# Altium footprint library pcb_lib.PcbLib: 20 footprints (part 1 of 2)
Each footprint in its own frame and in the unit in brackets; x right, y up, seen from the top. Pads: shape width x height; smd on the part's side, far side on the other; paste and mask are expansions set on the pad; w line width, h text height; cw(c..) or ccw(c..) is an arc to the next point about the centre after c.
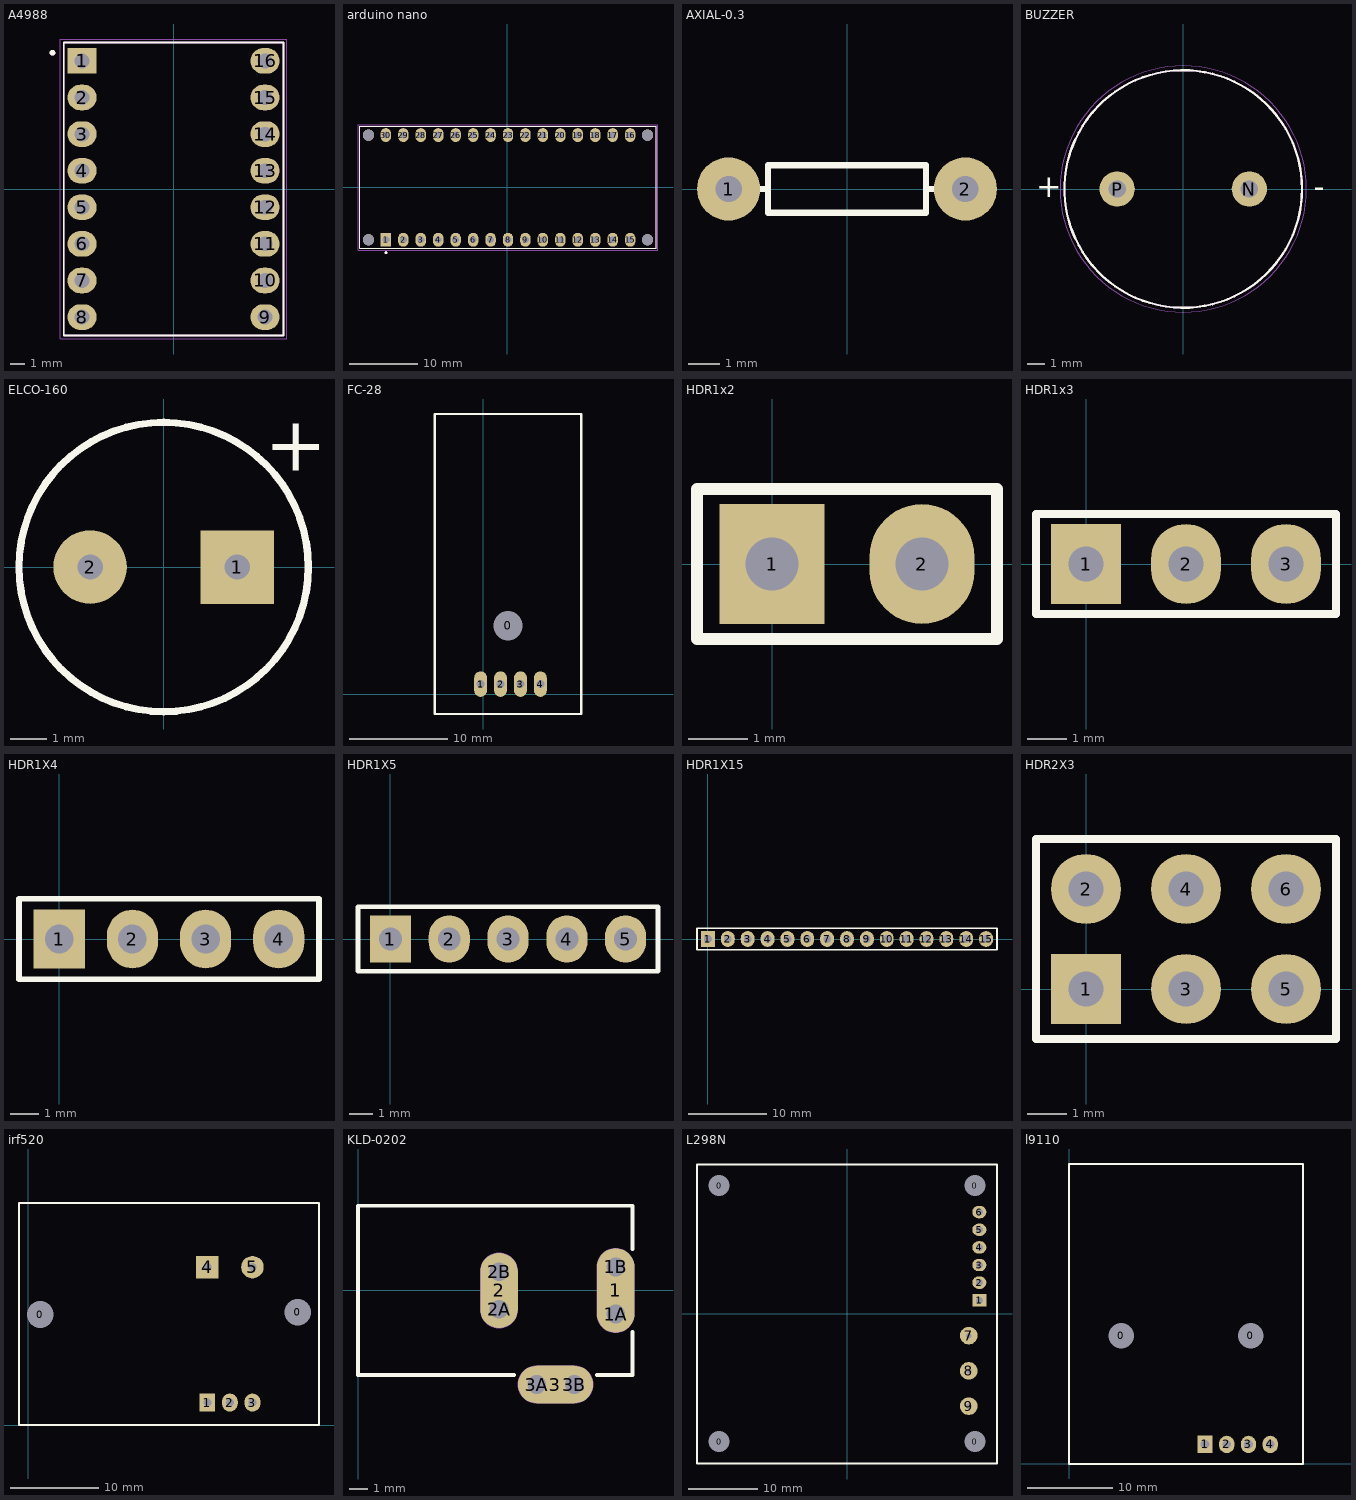
[diagram p0: the footprints below, top view; thin cyan lines are the x and y axes]

## A4988 [mil]
pads (16):
  rect 80x70 hole 40.16: 1(-250,350)
  oval 80x70 hole 40.16: 2(-250,250) 3(-250,150) 4(-250,50) 5(-250,-50) 6(-250,-150) 7(-250,-250) 8(-250,-350) 9(250,-350) 10(250,-250) 11(250,-150) 12(250,-50) 13(250,50) 14(250,150) 15(250,250) 16(250,350)
Top Overlay:
  circle w7.87: c-330.71,372.05 r3.94
  lines w5: -300,-400 300,-400 300,400 -300,400 -300,-400
Mechanical 13:
  circle w7.87: c-330.71,372.05 r3.94
  lines w5: -300,-400 300,-400 300,400 -300,400 -300,-400
Mechanical 15:
  lines w1.97: -309.84,-409.84 -309.84,409.84 309.84,409.84 309.84,-409.84 -309.84,-409.84
3D body "A4988-Stepper-Driver-WithPins.stp": height 224.41, standoff -216.54, extent -294.49,-400 294.49,400

## arduino nano [mil]
pads (34):
  rect 60x80 / inner oval 60x80 / far side rect 60x80 hole 40: 1(-695,-300)
  oval 60x80 hole 40: 2(-595,-300) 3(-495,-300) 4(-395,-300) 5(-295,-300) 6(-195,-300) 7(-95,-300) 8(5,-300) 9(105,-300) 10(205,-300) 11(305,-300) 12(405,-300) 13(505,-300) 14(605,-300) 15(705,-300) 16(705,300) 17(605,300) 18(505,300) 19(405,300) 20(305,300) 21(205,300) 22(105,300) 23(5,300) 24(-95,300) 25(-195,300) 26(-295,300) 27(-395,300) 28(-495,300) 29(-595,300) 30(-695,300)
  round 65 hole 65 unplated: ""(-795,-300) ""(-795,300) ""(805,-300) ""(805,300)
Top Overlay:
  circle w7.87: c-695,-374.02 r3.94
  lines w5: -845,-350 -845,350 855,350 855,-350 -845,-350
Mechanical 13:
  circle w7.87: c-695,-374.02 r3.94
  lines w5: -845,-350 -845,350 855,350 855,-350 -845,-350
Mechanical 15:
  lines w1.97: -854.84,-359.84 -854.84,359.84 864.84,359.84 864.84,-359.84 -854.84,-359.84
3D body "step_temp.STEP": height 236.22, standoff -236.22, extent -880.27,-355 865,345

## AXIAL-0.3 [mil] "Axial Device, Thru-Hole; 2 Leads; 0.3 in Pin Spacing"
height 60
pads (2):
  round 80 hole 33.46: 1(-150,0) 2(150,0)
Top Overlay:
  lines w7.87: -109,0 -100,0 ; 109,0 100,0 ; 100,0 100,30 -100,30 -100,-30 100,-30 100,0
3D body "Resistor P 8 mm.STEP": height 122, standoff -102.17, extent -165.36,-49.02 165.36,45

## BUZZER [mil]
pads (2):
  round 80 hole 39.37: N(150,0) P(-150,0)
Top Overlay:
  circle w5: c0,0 r269.69
  text "-" at 296.54,-18.57 h50.18
  text "+" at -334.31,-18.57 h50.19
Mechanical 13:
  circle w5: c0,0 r269.69
Mechanical 15:
  circle w1.97: c0,0 r279.53
3D body "RMP-14P-HT.stp": height 275.59, standoff -137.8, extent -275.58,-270.58 275.6,280.6

## ELCO-160 [mil] "Polarized Capacitor (Radial); 2 Leads"
height 185.04
pads (2):
  rect 80x80 hole 27.56: 1(80,0)
  round 80 hole 27.56: 2(-80,0)
Top Overlay:
  circle w7.87: c0,0 r157.48
  text "+" at 110,105 h59.06
3D body "100uF 35V electr 8 x12mm -P.diameter 4mm-Black-White.stp": height 477.44, standoff -156.42, extent -157.48,-157.46 157.49,157.47

## FC-28 [mil]
pads (5):
  round 60 hole 118.11: 0(100,275)
  oval 51.5x102.99 hole 31.5: 1(-10,40) 2(70,40) 3(150,40) 4(230,40)
Top Overlay:
  lines w10: -195,-80 395,-80 395,1125 -195,1125 -195,-80
3D body "soil sensor.STEP": height 196.85, standoff 0, extent -176.18,-250 375,1364.17

## HDR1x2 [mil]
pads (2):
  rect 70x80 hole 35.43: 1(0,0)
  oval 70x80 hole 35.43: 2(100,0)
Top Overlay:
  lines w7.87: -50,-50 150,-50 150,50 -50,50 -50,-50
3D body "2x1, Male, Header, 0.1in pitch.stp": height 340, standoff -100, extent -50,-50 150,50

## HDR1x3 [mil]
pads (3):
  rect 70x80 hole 35.43: 1(0,0)
  oval 70x80 hole 35.43: 2(100,0) 3(200,0)
Top Overlay:
  lines w7.87: -50,-50 -50,50 250,50 250,-50 -50,-50
3D body "2x1, Male, Header, 0.1in pitch.stp": height 340, standoff -100, extent -50,-50 150,50
3D body "2x1, Male, Header, 0.1in pitch.stp": height 340, standoff -100, extent 50,-50 250,50

## HDR1X4 [mil]
pads (4):
  rect 70x80 hole 38.98: 1(0,0)
  oval 70x80 hole 38.98: 2(100,0) 3(200,0) 4(300,0)
Top Overlay:
  lines w7.87: -55.12,-55.12 -55.12,55.12 355,55.12 355,-55.12 -55.12,-55.12
3D body "4x1, Male, Header, 0.1in pitch.stp": height 340, standoff -100, extent -50,-50 350,50

## HDR1X5 [mil]
pads (5):
  rect 70x80 hole 38.98: 1(0,0)
  oval 70x80 hole 38.98: 2(100,0) 3(200,0) 4(300,0) 5(400,0)
Top Overlay:
  lines w7.87: -55.12,-55.12 -55.12,55.12 455,55.12 455,-55.12 -55.12,-55.12
3D body "4x1, Male, Header, 0.1in pitch.stp": height 340, standoff -100, extent 45,-50 445,50
3D body "4x1, Male, Header, 0.1in pitch.stp": height 340, standoff -100, extent -50,-50 350,50

## HDR1X15 [mil]
pads (15):
  rect 70x80 hole 38.98: 1(0,0)
  oval 70x80 hole 38.98: 2(100,0) 3(200,0) 4(300,0) 5(400,0) 6(500,0) 7(600,0) 8(700,0) 9(800,0) 10(900,0) 11(1000,0) 12(1100,0) 13(1200,0) 14(1300,0) 15(1400,0)
Top Overlay:
  lines w7.87: -55.12,-55.12 1455,-55.12 1455,55.12 -55.12,55.12 -55.12,-55.12
3D body "10x1, Male, Header, 0.1in pitch.stp": height 340, standoff -100, extent -50,-50 950,50
3D body "10x1, Male, Header, 0.1in pitch.stp": height 340, standoff -100, extent 450,-50 1450,50

## HDR2X3 [mil] "Connector; Header; 4x2 Position"
pads (6):
  rect 70x70 hole 35.43: 1(0,0)
  round 70 hole 35.43: 2(0,100) 3(100,0) 4(100,100) 5(200,0) 6(200,100)
Top Overlay:
  lines w7.87: -50,-50 250,-50 250,150 -50,150 -50,-50
3D body "2x1, Male, Header, 0.1in pitch.stp": height 340, standoff -100, extent 50,-50 250,50
3D body "2x1, Male, Header, 0.1in pitch.stp": height 340, standoff -100, extent -50,-50 150,50
3D body "2x1, Male, Header, 0.1in pitch.stp": height 340, standoff -100, extent 50,50 250,150
3D body "2x1, Male, Header, 0.1in pitch.stp": height 340, standoff -100, extent -50,50 150,150

## irf520 [mil]
pads (7):
  round 60 hole 118.11: 0(55,490) 0(1195,500)
  rect 70x80 hole 35.43: 1(795,100)
  oval 70x80 hole 35.43: 2(895,100) 3(995,100)
  rect 100x100 hole 35.43: 4(795,700)
  round 100 hole 35.43: 5(995,700)
Top Overlay:
  lines w10: -40,0 -40,985 1290,985 1290,0 -40,0
3D body "irf520n_module_asm.stp": height 814.96, standoff -31.5, extent -45,-230.24 1293.58,990.24

## KLD-0202 [mm] "DC Power Jack, 2.5mm, KLD Series, PCB Mount"
height 4.7
pads (9):
  oval 2x4.5 all layers, no hole: 1(13.7,0)
  round 1.5 hole 1: 1A(13.7,-1.25) 1B(13.7,1.25) 2A(7.5,-1) 2B(7.5,1) 3A(9.5,-5) 3B(11.5,-5)
  oval 2x4 all layers, no hole: 2(7.5,0)
  oval 4x2 all layers, no hole: 3(10.5,-5)
Top Overlay:
  lines w0.2: 8.3,-4.5 0,-4.5 0,4.5 14.6,4.5 14.6,2.2 ; 12.7,-4.5 14.6,-4.5 14.6,-2.2
Mechanical 1:
  lines w1: 7.5,-1 7.5,1 ; 9.5,-5 11.5,-5 ; 13.7,-1.25 13.7,1.25
Mechanical 2:
  lines w2.016: 7.5,-1 7.5,1 ; 9.5,-5 11.5,-5 ; 13.7,-1.25 13.7,1.25
3D body "DC_Barrel_Assy.stp": height 11.09, standoff -4.41, extent 0,-4.946 14.663,4.754

## L298N [mil]
pads (13):
  round 60 hole 118.11: 0(-725,-725) 0(-725,725) 0(725,-725) 0(725,725)
  rect 80x70 hole 38.98: 1(750,75)
  oval 80x70 hole 38.98: 2(750,175) 3(750,275) 4(750,375) 5(750,475) 6(750,575)
  round 100 hole 30: 7(690,-125) 8(690,-325) 9(690,-525)
Top Overlay:
  lines w10: -850,-850 850,-850 850,845 -850,845 -850,0 -850,-850
3D body "placa_controlador_nueva v56.step": height 1052.02, standoff -95.69, extent -846.76,-846.46 846.45,846.45

## l9110 [mil]
pads (6):
  round 60 hole 118.11: 0(240,590) 0(835,590)
  rect 70x80 / inner oval 70x80 / far side rect 70x80 hole 39.37: 1(625,90)
  oval 70x80 hole 39.37: 2(725,90) 3(825,90) 4(925,90)
Top Overlay:
  lines w10: 0,0 0,1380 1075,1380 1075,0 0,0
3D body "STEP_MotorBoard.stp": height 1369.92, standoff -863.39, extent -895.13,-270.95 1971.01,1962.36